# Altium schematic symbol library Mosfet.SchLib: 7 symbols
Pins are listed as number, name and electrical type; pins without a type are passive.

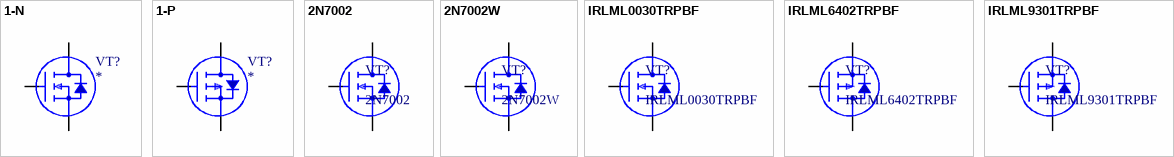
[diagram p0: symbols 1-N to IRLML9301TRPBF]

## 1-N
designator VT?
Транзистор МОП, одиночный, N-канальный; ComponentType: Транзистор МОП; ChannelType: N-канальный; ComponentDescription: =ComponentType+', '+ChannelType+', '+Comment+', '+Package
footprint SOT-23-3 (SOT23, 3-Leads, Body 2,90x2,30mm, Pitch 0,95mm, IPC Medium Density); pin to pad D>3 G>1 S>2
footprint SOT-223-4 (SOT223, 4-Leads, Body 6,50x7,00mm (avg), Pitch 2,30mm, IPC Medium Density); pin to pad D>2 G>1 S>3
footprint SOT-323-3 (SOT-323/SC-70; 3 Leads; Body 2.2 x 2.2 mm, inc. leads (LxW max)); pin to pad D>3 G>1 S>2
pins: D, G, S

## 1-P
designator VT?
Транзистор МОП, одиночный, P-канальный; ComponentType: Транзистор МОП; ChannelType: P-канальный; ComponentDescription: =ComponentType+', '+ChannelType+', '+Comment+', '+Package
footprint SOT-23-3 (SOT23, 3-Leads, Body 2,90x2,30mm, Pitch 0,95mm, IPC Medium Density); pin to pad D>3 G>1 S>2
footprint SOT-223-4 (SOT223, 4-Leads, Body 6,50x7,00mm (avg), Pitch 2,30mm, IPC Medium Density); pin to pad D>2 G>1 S>3
footprint SOT-323-3 (SOT-323/SC-70; 3 Leads; Body 2.2 x 2.2 mm, inc. leads (LxW max)); pin to pad D>3 G>1 S>2
pins: D, G, S

## 2N7002
designator VT?
Транзистор МОП, одиночный, N-канальный; ComponentDescription: =ComponentType+', '+ChannelType+', '+Comment+', '+Package; ChannelType: N-канальный; ComponentType: Транзистор МОП, одиночный
footprint SOT-23-3 (SOT23, 3-Leads, Body 2,90x2,30mm, Pitch 0,95mm, IPC Medium Density); pin to pad D>3 G>1 S>2
pins: D, G, S

## 2N7002W
designator VT?
Транзистор МОП, одиночный, N-канальный; ComponentDescription: =ComponentType+', '+ChannelType+', '+Comment+', '+Package; ChannelType: N-канальный; ComponentType: Транзистор МОП, одиночный
footprint SOT-323-3 (SOT-323/SC-70; 3 Leads; Body 2.2 x 2.2 mm, inc. leads (LxW max)); pin to pad D>3 G>1 S>2
pins: D, G, S

## IRLML0030TRPBF
designator VT?
Транзистор МОП, одиночный, N-канальный; ComponentDescription: =ComponentType+', '+ChannelType+', '+Comment+', '+Package; ChannelType: N-канальный; ComponentType: Транзистор МОП, одиночный
footprint SOT-23-3 (SOT23, 3-Leads, Body 2,90x2,30mm, Pitch 0,95mm, IPC Medium Density); pin to pad D>3 G>1 S>2
pins: D, G, S

## IRLML6402TRPBF
designator VT?
Транзистор МОП, одиночный, P-канальный; ComponentDescription: =ComponentType+', '+ChannelType+', '+Comment+', '+Package; ChannelType: P-канальный; ComponentType: Транзистор МОП, одиночный
footprint SOT-23-3 (SOT23, 3-Leads, Body 2,90x2,30mm, Pitch 0,95mm, IPC Medium Density); pin to pad D>3 G>1 S>2
pins: D, G, S

## IRLML9301TRPBF
designator VT?
Транзистор МОП, одиночный, P-канальный; ComponentDescription: =ComponentType+', '+ChannelType+', '+Comment+', '+Package; ChannelType: P-канальный; ComponentType: Транзистор МОП, одиночный
footprint SOT-23-3 (SOT23, 3-Leads, Body 2,90x2,30mm, Pitch 0,95mm, IPC Medium Density); pin to pad D>3 G>1 S>2
pins: D, G, S